# EAGLE library part RIBBON-CONN-2X5 (library alvie)
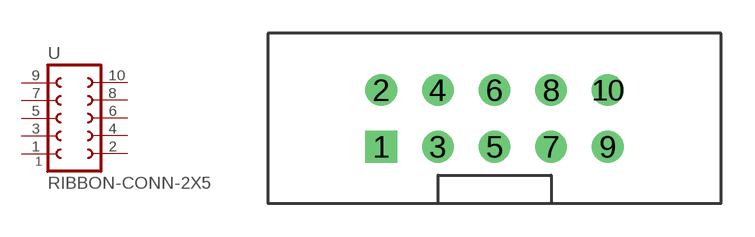
[diagram p52: symbol with the pads of RIBBON-CONN-2X5; footprint RIBBON-CONN-2X5]

Designator prefix -

## RIBBON-CONN-2X5  [RIBBON-CONN-2X5]
1  1  pas
2  2  pas
3  3  pas
4  4  pas
5  5  pas
6  6  pas
7  7  pas
8  8  pas
9  9  pas
10  10  pas

## Footprint RIBBON-CONN-2X5 (pad centres in mm)
drill 0.914 square: 1 -5.08,-1.27
drill 0.914: 2 -5.08,1.27; 3 -2.54,-1.27; 4 -2.54,1.27; 5 0,-1.27; 6 0,1.27; 7 2.54,-1.27; 8 2.54,1.27; 9 5.08,-1.27; 10 5.08,1.27